# Altium schematic symbol library 732511150.SchLib: 1 symbol
Pins are listed as number, name and electrical type; pins without a type are passive.

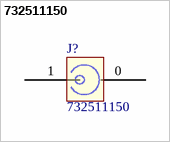
[diagram p0: symbol 732511150]

## 732511150
designator J?
CONN SMA PCB EDGE MOLEX 73251-1150
footprint MOLEX_732511150 (SMA EDGE)
pins: 0 GND, 1 SIG